# EAGLE library part PIN-1X6 (library alvie)
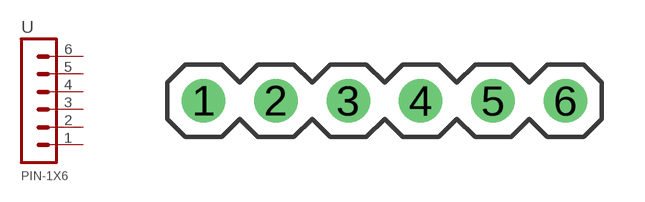
[diagram p30: symbol with the pads of PIN-1X6; footprint PIN-1X6]

Designator prefix -

## PIN-1X6  [PIN-1X6]
1  1  pas
2  2  pas
3  3  pas
4  4  pas
5  5  pas
6  6  pas

## Footprint PIN-1X6 (pad centres in mm)
drill 1.016: 1 -6.35,0; 2 -3.81,0; 3 -1.27,0; 4 1.27,0; 5 3.81,0; 6 6.35,0